# Altium schematic symbol library BAT54DW-7-F.SchLib: 2 symbols
Pins are listed as number, name and electrical type; pins without a type are passive.

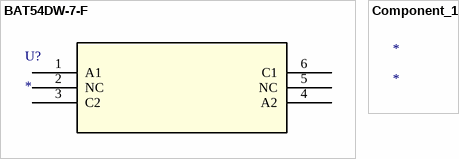
[diagram p0: symbols BAT54DW-7-F to Component_1]

## BAT54DW-7-F
designator U?
No Description Available; Mfr_Name: Diodes Inc; RefDes: RefDes; Type: Type
footprint SOT-363_DIO
pins: 1 A1, 2 NC, 3 C2, 4 A2, 5 NC, 6 C1

## Component_1
designator *